# EAGLE library part SIR870ADP-T1-GE3 (library SIR870ADP-T1-GE3)
SIR870ADP-T1-GE3 N-Channel MOSFET, 60 A, 100 V, 8-Pin PowerPAK SO Vishay Source: Datasheet <https://www.vishay.com/docs/63657/sir870adp.pdf>
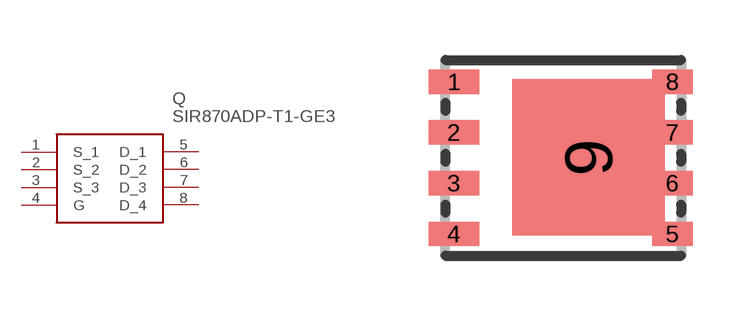
[diagram p0: symbol with the pads of POWERPAK-SO-8; footprint POWERPAK-SO-8]

Designator prefix Q

## SIR870ADP-T1-GE3 (Description: SIR870ADP-T1-GE3 N-Channel MOSFET, 60 A, 100 V, 8-Pin PowerPAK SO Vishay; Height: mm; Manufacturer_Name: Vishay; Manufacturer_Part_Number: SIR870ADP-T1-GE3; Mouser_Part_Number: 78-SIR870ADP-T1-GE3; Mouser_Price-Stock: https://www.mouser.co.uk/ProductDetail/Vishay-Semiconductors/SIR870ADP-T1-GE3?qs=mmSTCsvLT3lJKRSNN%252BkeNw%3D%3D)  [POWERPAK-SO-8]
1  S_1
2  S_2
3  S_3
4  G
5  D_1
6  D_2
7  D_3
8  D_4

## Footprint POWERPAK-SO-8 (pad centres in mm)
PowerPAK-SO-8
smd 1.27 x 0.61: 1 0.212,-0.545; 2 0.212,-1.815; 3 0.212,-3.085; 4 0.212,-4.355
smd 1.02 x 0.61: 5 5.678,-4.355; 6 5.678,-3.085; 7 5.678,-1.815; 8 5.678,-0.545
smd 3.81 x 3.91: 9 3.572,-2.44